# Altium footprint library Capacitor Electrolytic Snap-In Radial.PcbLib: 97 footprints (part 1 of 7)
Each footprint in its own frame and in the unit in brackets; x right, y up, seen from the top. Pads: shape width x height; smd on the part's side, far side on the other; paste and mask are expansions set on the pad; w line width, h text height; cw(c..) or ccw(c..) is an arc to the next point about the centre after c.
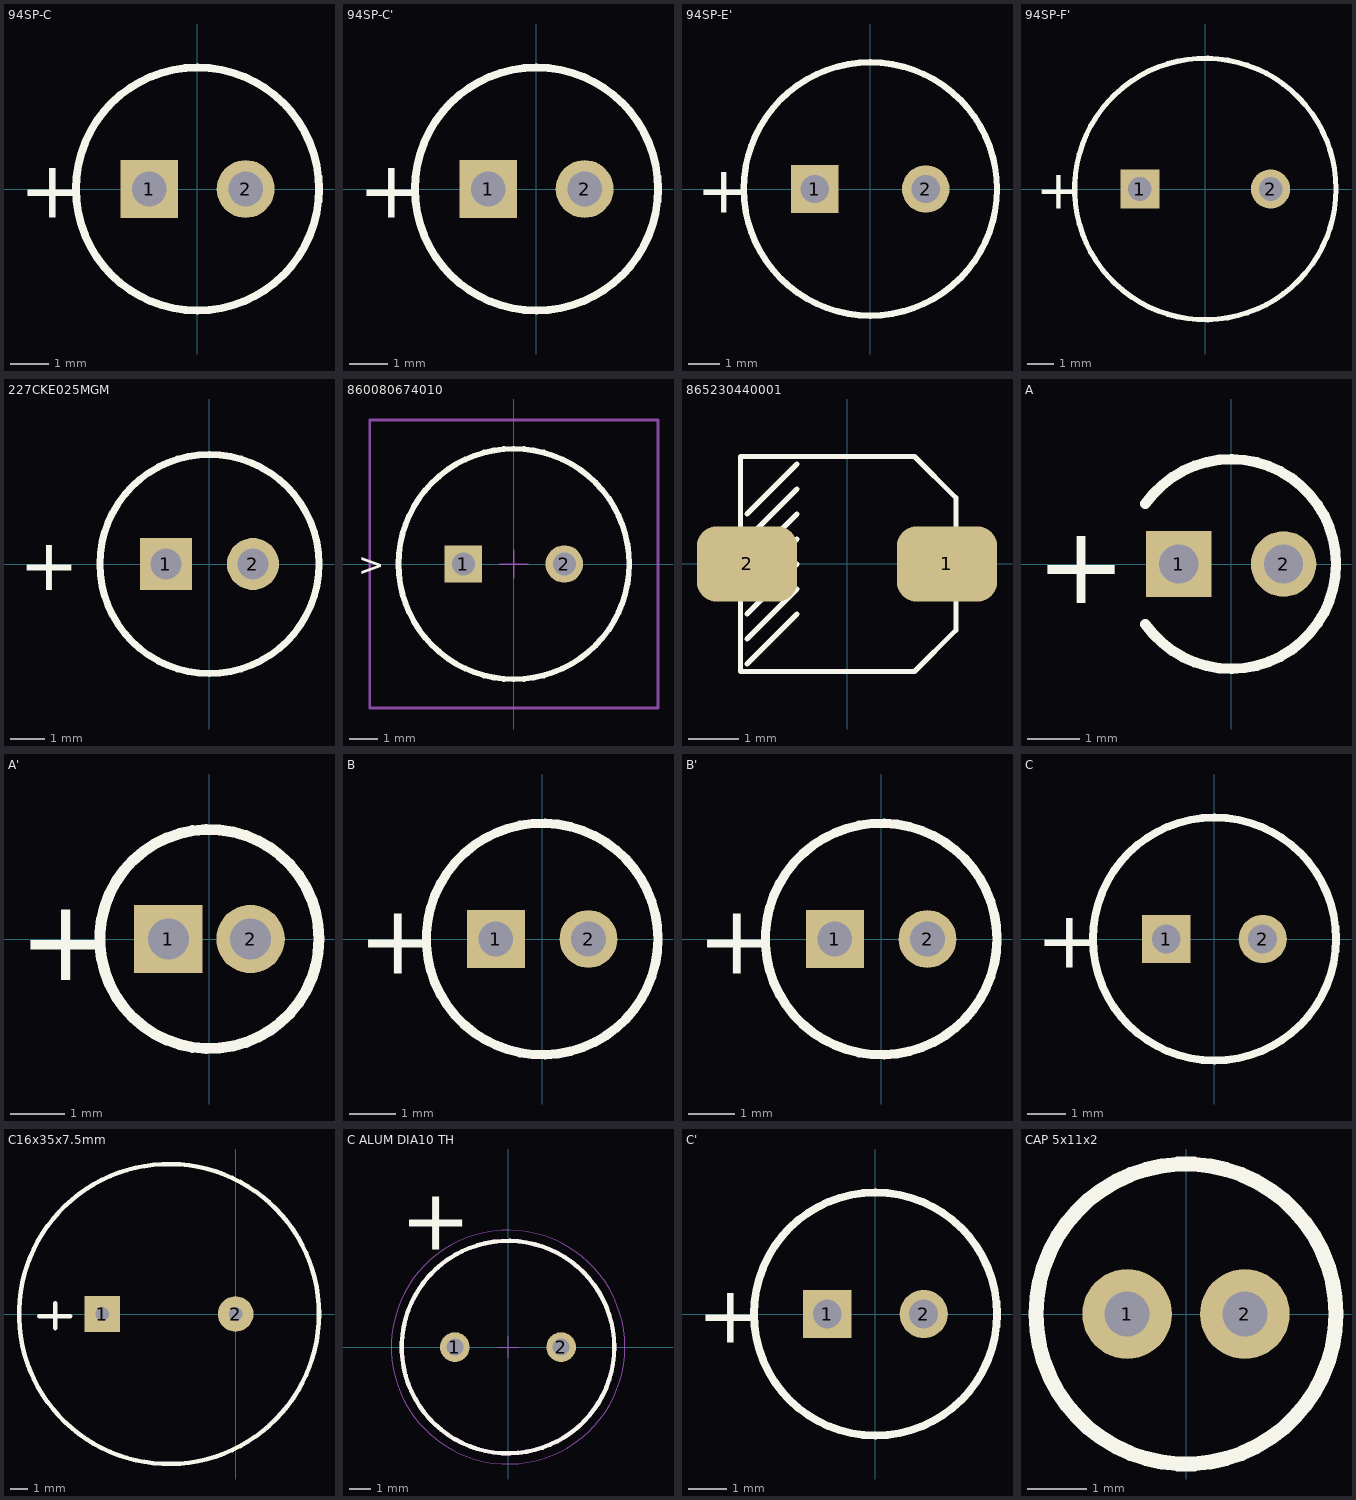
[diagram p0: the footprints below, top view; thin cyan lines are the x and y axes]

## 94SP-C [mm] "Capacitor, Electrolytic, Radial; Body 6.3 x 6.8 mm (Dia.xH typ); Pin Spacing 2.5 mm (typ)"
height 7.8
pads (2):
  rect 1.5x1.5 hole 0.9: 1(-1.25,0)
  round 1.5 hole 0.9: 2(1.25,0)
Top Overlay:
  circle w0.2: c0,0 r3.15
  text "+" at -4.625,-0.75 h1.5

## 94SP-C' [mm] "Capacitor, Electrolytic, Radial; Body 6.3 x 5 mm (Dia.xH typ); Pin Spacing 2.5 mm (typ)"
height 6
pads (2):
  rect 1.5x1.5 hole 0.9: 1(-1.25,0)
  round 1.5 hole 0.9: 2(1.25,0)
Top Overlay:
  circle w0.2: c0,0 r3.15
  text "+" at -4.625,-0.75 h1.5

## 94SP-E' [mm] "Capacitor, Electrolytic, Radial; Body 8 x 5 mm (Dia.xH typ); Pin Spacing 3.5 mm (typ)"
height 6
pads (2):
  rect 1.5x1.51 hole 0.9: 1(-1.75,0)
  round 1.5 hole 0.9: 2(1.75,0)
Top Overlay:
  circle w0.2: c0,0 r4
  text "+" at -5.475,-0.75 h1.5

## 94SP-F' [mm] "Capacitor, Electrolytic, Radial; Body 10 x 5 mm (Dia.xH typ); Pin Spacing 5 mm (typ)"
height 6
pads (2):
  rect 1.5x1.5 hole 0.9: 1(-2.5,0)
  round 1.5 hole 0.9: 2(2.5,0)
Top Overlay:
  circle w0.2: c0,0 r5
  text "+" at -6.475,-0.75 h1.5

## 227CKE025MGM [mm]
height 11
pads (2):
  rect 1.5x1.5 / inner rect 1.5x1.51 / far side rect 2x3 hole 0.9: 1(-1.25,0)
  round 1.5 / inner round 1.5 / far side oval 2x3 hole 0.9: 2(1.25,0)
Top Overlay:
  circle w0.2: c0,0 r3.15
  text "+" at -5.475,-0.75 h1.5
3D body: height 11, standoff 0, extent -3.15,-3.147 3.15,3.147

## 860080674010 [mm]
pads (2):
  rect 1.3x1.3 hole 0.8: 1(-1.75,0)
  round 1.3 hole 0.8: 2(1.75,0)
Top Overlay:
  lines w0.2: 0,-4 ccw(c0,0) 0,4 ccw(c0,0) 0,-4
  text ">" at -5.407,-0.4 h0.8
Mechanical 13:
  lines w0.1: 0,-4 ccw(c0,0) 0,4 ccw(c0,0) 0,-4
Mechanical 15:
  lines w0.05: -0.5,0 0.5,0 ; 0,-0.5 0,0.5
  lines w0.1: -5,-5 -5,5 5,5 5,-5 -5,-5
3D body "860080674010.stp": height 15.89, standoff -20.11, extent -3.99,-4 4,3.999

## 865230440001 [mm]
pads (2):
  rrect50% 2x1.5 smd: 1(2,0) 2(-2,0)
Top Overlay:
  lines w0.1: -2,-2 -1,-1 ; -2,-1.5 -1,-0.5 ; -2,-1 -1,0 ; -2,-0.5 -1,0.5 ; -2,0 -1,1 ; -2,0.5 -1,1.5 ; -2,1 -1,2 ; 0.85,2.15 -2.125,2.15 ; -2.125,2.15 1.35,2.15 2.175,1.325 2.175,-1.325 1.35,-2.15 -2.125,-2.15 -2.125,2.15
3D body: height 5, standoff 0, extent -2,-2 2,2

## A [mm] "Capacitor, Electrolytic, Radial; Body 4 x 6.8 mm (Dia.xH typ); Pin Spacing 2 mm (typ)"
height 7.8
pads (2):
  rect 1.25x1.25 hole 0.75: 1(-1,0)
  round 1.25 hole 0.75: 2(1,0)
Top Overlay:
  lines w0.2: -1.638,-1.147 ccw(c0,0) 2,0 ccw(c0,0) -1.638,1.147
  text "+" at -3.725,-0.75 h1.5

## A' [mm] "Capacitor, Electrolytic, Radial; Body 4 x 5 mm (Dia.xH typ); Pin Spacing 1.5 mm (typ)"
height 6
pads (2):
  rect 1.25x1.25 hole 0.75: 1(-0.75,0)
  round 1.25 hole 0.75: 2(0.75,0)
Top Overlay:
  circle w0.2: c0,0 r2
  text "+" at -3.475,-0.75 h1.5

## B [mm] "Capacitor, Electrolytic, Radial; Body 5 x 6.8 mm (Dia.xH typ); Pin Spacing 2 mm (typ)"
height 7.8
pads (2):
  rect 1.25x1.25 hole 0.75: 1(-1,0)
  round 1.25 hole 0.75: 2(1,0)
Top Overlay:
  circle w0.2: c0,0 r2.5
  text "+" at -3.975,-0.75 h1.5

## B' [mm] "Capacitor, Electrolytic, Radial; Body 5 x 5 mm (Dia.xH typ); Pin Spacing 2 mm (typ)"
height 6
pads (2):
  rect 1.25x1.25 hole 0.75: 1(-1,0)
  round 1.25 hole 0.75: 2(1,0)
Top Overlay:
  circle w0.2: c0,0 r2.5
  text "+" at -3.975,-0.75 h1.5

## C [mm] "Capacitor, Electrolytic, Radial; Body 6.3 x 6.8 mm (Dia.xH typ); Pin Spacing 2.5 mm (typ)"
height 7.8
pads (2):
  rect 1.25x1.25 hole 0.75: 1(-1.25,0)
  round 1.25 hole 0.75: 2(1.25,0)
Top Overlay:
  circle w0.2: c0,0 r3.15
  text "+" at -4.625,-0.75 h1.5

## C16x35x7.5mm [mm]
pads (2):
  rect 2x2 hole 0.762: 1(-7.5,0)
  round 2 hole 0.762: 2(0,0)
Top Overlay:
  circle w0.254: c-3.75,0 r8.44
  lines w0.254: -11.038,-0.127 -9.296,-0.127 ; -10.16,-0.787 -10.16,0.61
3D body "CE_R300_D720_H1600.step": height 41.36, standoff -2.78, extent -12.899,-9.265 5.381,9.011

## C ALUM DIA10 TH [mm]
height 4.83
pads (2):
  round 1.4 hole 0.8: 1(-2.5,0) 2(2.5,0)
Top Overlay:
  circle w0.2: c0,0 r5
  text "+" at -5.072,3.616 h5
Mechanical 13:
  circle w0.2: c0,0 r5
Mechanical 15:
  circle w0.05: c0,0 r5.5
  lines w0.05: -0.5,0 0.5,0 ; 0,-0.5 0,0.5
3D body "EEUFS1K151B.step": height 16, standoff -17, extent -4.985,-4.99 5,4.99

## C' [mm] "Capacitor, Electrolytic, Radial; Body 6.3 x 5 mm (Dia.xH typ); Pin Spacing 2.5 mm (typ)"
height 6
pads (2):
  rect 1.25x1.25 hole 0.75: 1(-1.25,0)
  round 1.25 hole 0.75: 2(1.25,0)
Top Overlay:
  circle w0.2: c0,0 r3.15
  text "+" at -4.625,-0.75 h1.5

## CAP 5x11x2 [mil] "5 mm (d) x 11mm(L) x 2 mm Lead Spacing."
height 433.07
pads (2):
  round 60 hole 30: 1(-39.37,0) 2(39.37,0)
Top Overlay:
  circle w10: c0,0 r100.37
3D body "User Library-cap 5x11.STEP": height 452.76, standoff -728.35, extent -98.42,-98.42 98.42,98.43